# EAGLE library part STM_COMPO (library 02 Fusion360 STM32L432KC)
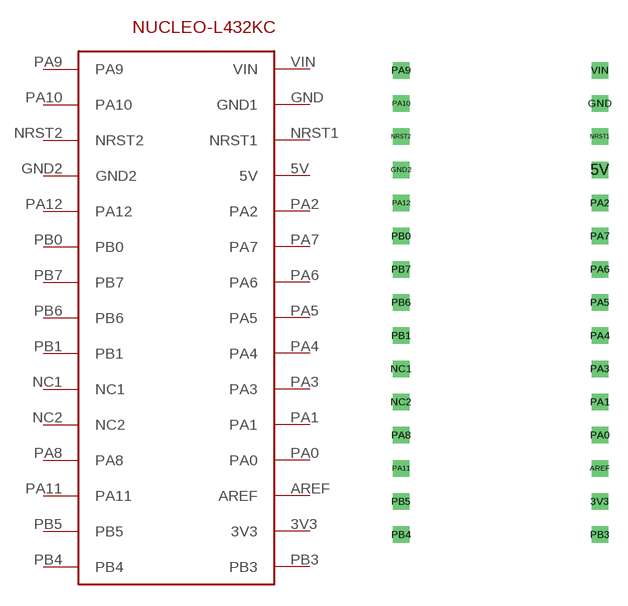
[diagram p0: symbol with the pads of STM_FOOT; footprint STM_FOOT]

Designator prefix -

## STM_COMPO  [STM_FOOT]
3V3  3V3
5V  5V
AREF  AREF
GND  GND1
GND2  GND2
NC1  NC1
NC2  NC2
NRST1  NRST1
NRST2  NRST2
PA0  PA0
PA1  PA1
PA2  PA2
PA3  PA3
PA4  PA4
PA5  PA5
PA6  PA6
PA7  PA7
PA8  PA8
PA9  PA9
PA10  PA10
PA11  PA11
PA12  PA12
PB0  PB0
PB1  PB1
PB3  PB3
PB4  PB4
PB5  PB5
PB6  PB6
PB7  PB7
VIN  VIN

## Footprint STM_FOOT (pad centres in mm)
drill 0.75 square: 3V3 16.891,-42.291; 5V 16.891,-16.891; AREF 16.891,-39.751; GND 16.891,-11.811; GND2 1.651,-16.891; NC1 1.651,-32.131; NC2 1.651,-34.671; NRST1 16.891,-14.351; NRST2 1.651,-14.351; PA0 16.891,-37.211; PA1 16.891,-34.671; PA2 16.891,-19.431; PA3 16.891,-32.131; PA4 16.891,-29.591; PA5 16.891,-27.051; PA6 16.891,-24.511; PA7 16.891,-21.971; PA8 1.651,-37.211; PA9 1.651,-9.271; PA10 1.651,-11.811; PA11 1.651,-39.751; PA12 1.651,-19.431; PB0 1.651,-21.971; PB1 1.651,-29.591; PB3 16.891,-44.831; PB4 1.651,-44.831; PB5 1.651,-42.291; PB6 1.651,-27.051; PB7 1.651,-24.511; VIN 16.891,-9.271